# Altium footprint library W25Q128JVPIQ.PcbLib: 3 footprints
Each footprint in its own frame and in the unit in brackets; x right, y up, seen from the top. Pads: shape width x height; smd on the part's side, far side on the other; paste and mask are expansions set on the pad; w line width, h text height; cw(c..) or ccw(c..) is an arc to the next point about the centre after c.
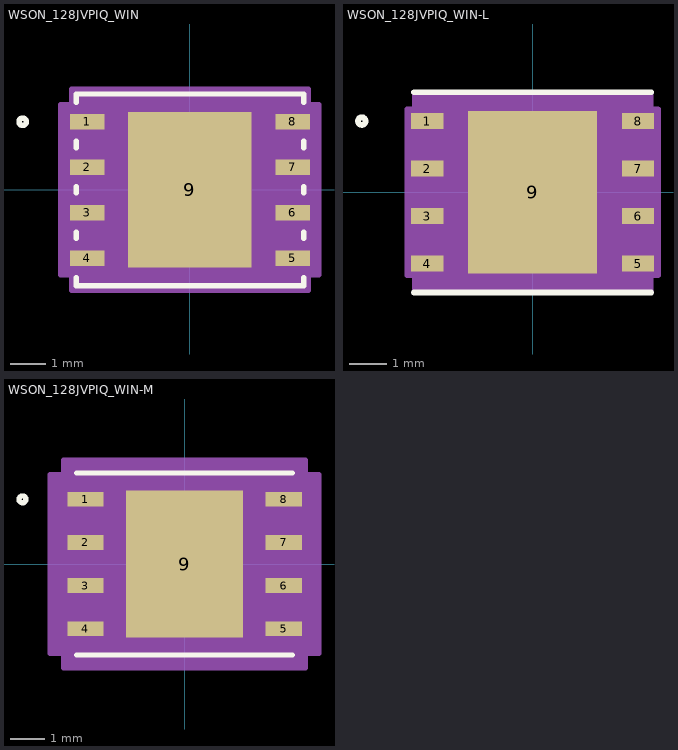
[diagram p0: the footprints below, top view; thin cyan lines are the x and y axes]

## WSON_128JVPIQ_WIN [mil]
pads (9):
  rect 38x17 smd paste+0 mask+0: 1(-113,75) 2(-113,25) 3(-113,-25) 4(-113,-75) 5(113,-75) 6(113,-25) 7(113,25) 8(113,75)
  rect 136x171 smd paste+0 mask+0: 9(0,0)
Top Overlay:
  circle w6: c-184,75 r4
  lines w6: -125,-96.6 -125,-105.5 125,-105.5 125,-96.6 ; -125,-53.4 -125,-46.6 ; -125,-3.4 -125,3.4 ; -125,46.6 -125,53.4 ; -125,96.6 -125,105.5 125,105.5 125,96.6 ; 125,-53.4 125,-46.6 ; 125,-3.4 125,3.4 ; 125,46.6 125,53.4
Top Paste:
  region: -3.94,81.56 -64.06,81.56 -64.06,32.44 -3.94,32.44
  region: -3.94,24.56 -64.06,24.56 -64.06,-24.56 -3.94,-24.56
  region: -3.94,-32.44 -64.06,-32.44 -64.06,-81.56 -3.94,-81.56
  region: 64.06,81.56 3.94,81.56 3.94,32.44 64.06,32.44
  region: 64.06,24.56 3.94,24.56 3.94,-24.56 64.06,-24.56
  region: 64.06,-32.44 3.94,-32.44 3.94,-81.56 64.06,-81.56
Mechanical 13:
  circle w0: c-94,75 r3
  lines w0: -12,100.5 ccw(c0,100.5) 12,100.5
  lines w1: -120,-100.5 120,-100.5 120,100.5 -120,100.5 -120,-100.5
Mechanical 15:
  region: -130,-93.5 -142,-93.5 -142,93.5 -130,93.5 -130,110.5 130,110.5 130,93.5 142,93.5 142,-93.5 130,-93.5 130,-110.5 -130,-110.5
  lines w6: -142,-93.5 -142,93.5 -130,93.5 -130,110.5 130,110.5 130,93.5 142,93.5 142,-93.5 130,-93.5 130,-110.5 -130,-110.5 -130,-93.5 -142,-93.5
3D body "WSON_128JVPIQ_WIN.step": height 32.09, standoff 0, extent -120,-100.51 120,100.51

## WSON_128JVPIQ_WIN-L [mil]
pads (9):
  rect 34x17 smd paste+0 mask+0: 1(-111,75) 2(-111,25) 3(-111,-25) 4(-111,-75) 5(111,-75) 6(111,-25) 7(111,25) 8(111,75)
  rect 136x171 smd paste+0 mask+0: 9(0,0)
Top Overlay:
  circle w6: c-180,75 r4
  lines w6: -125,-105.5 125,-105.5 ; -125,105.5 125,105.5
Top Paste:
  region: -3.94,81.56 -64.06,81.56 -64.06,32.44 -3.94,32.44
  region: -3.94,24.56 -64.06,24.56 -64.06,-24.56 -3.94,-24.56
  region: -3.94,-32.44 -64.06,-32.44 -64.06,-81.56 -3.94,-81.56
  region: 64.06,81.56 3.94,81.56 3.94,32.44 64.06,32.44
  region: 64.06,24.56 3.94,24.56 3.94,-24.56 64.06,-24.56
  region: 64.06,-32.44 3.94,-32.44 3.94,-81.56 64.06,-81.56
Mechanical 13:
  circle w0: c-94,75 r3
  lines w0: -12,100.5 ccw(c0,100.5) 12,100.5
  lines w1: -120,-100.5 120,-100.5 120,100.5 -120,100.5 -120,-100.5
Mechanical 15:
  region: -124,-87.5 -132,-87.5 -132,87.5 -124,87.5 -124,104.5 124,104.5 124,87.5 132,87.5 132,-87.5 124,-87.5 124,-104.5 -124,-104.5
  lines w6: -132,-87.5 -132,87.5 -124,87.5 -124,104.5 124,104.5 124,87.5 132,87.5 132,-87.5 124,-87.5 124,-104.5 -124,-104.5 -124,-87.5 -132,-87.5
3D body "WSON_128JVPIQ_WIN.step": height 32.09, standoff 0, extent -120,-100.51 120,100.51

## WSON_128JVPIQ_WIN-M [mil]
pads (9):
  rect 42x17 smd paste+0 mask+0: 1(-115,75) 2(-115,25) 3(-115,-25) 4(-115,-75) 5(115,-75) 6(115,-25) 7(115,25) 8(115,75)
  rect 136x171 smd paste+0 mask+0: 9(0,0)
Top Overlay:
  circle w6: c-188,75 r4
  lines w6: -125,-105.5 125,-105.5 ; -125,105.5 125,105.5
Top Paste:
  region: -3.94,81.56 -64.06,81.56 -64.06,32.44 -3.94,32.44
  region: -3.94,24.56 -64.06,24.56 -64.06,-24.56 -3.94,-24.56
  region: -3.94,-32.44 -64.06,-32.44 -64.06,-81.56 -3.94,-81.56
  region: 64.06,81.56 3.94,81.56 3.94,32.44 64.06,32.44
  region: 64.06,24.56 3.94,24.56 3.94,-24.56 64.06,-24.56
  region: 64.06,-32.44 3.94,-32.44 3.94,-81.56 64.06,-81.56
Mechanical 13:
  circle w0: c-94,75 r3
  lines w0: -12,100.5 ccw(c0,100.5) 12,100.5
  lines w1: -120,-100.5 120,-100.5 120,100.5 -120,100.5 -120,-100.5
Mechanical 15:
  region: -140,-103.5 -156,-103.5 -156,103.5 -140,103.5 -140,120.5 140,120.5 140,103.5 156,103.5 156,-103.5 140,-103.5 140,-120.5 -140,-120.5
  lines w6: -156,-103.5 -156,103.5 -140,103.5 -140,120.5 140,120.5 140,103.5 156,103.5 156,-103.5 140,-103.5 140,-120.5 -140,-120.5 -140,-103.5 -156,-103.5
3D body "WSON_128JVPIQ_WIN.step": height 32.09, standoff 0, extent -120,-100.51 120,100.51